# EAGLE library part ISP10 (library common)
PIN HEADER
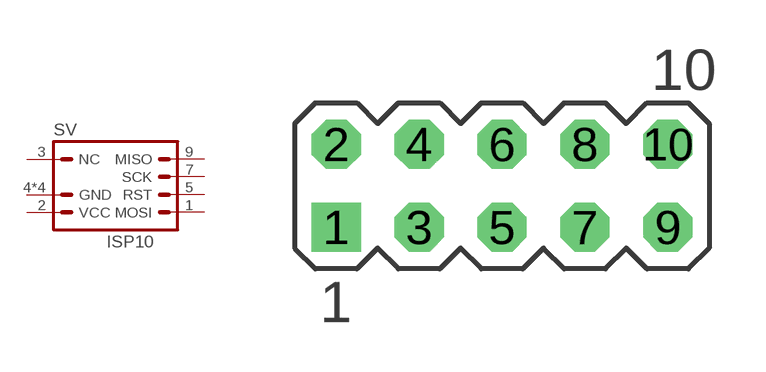
[diagram p10: symbol with the pads of MA05-2; footprint MA05-2]

Designator prefix SV

## ISP10-GND (OC_FARNELL: unknown; OC_NEWARK: unknown)  [MA05-2]
1  MOSI  pas
2  VCC  pas
3  NC  pas
4  GND  pas
5  RST  pas
6  GND  pas
7  SCK  pas
8  GND  pas
9  MISO  pas
10  GND  pas

## ISP10-NORS  [MA05-2]
1  MOSI  pas
2  VCC  pas
3  NC  pas
4  NC  pas
5  RST  pas
6  NC  pas
7  SCK  pas
8  GND  pas
9  MISO  pas
10  GND  pas

## Footprint MA05-2 (pad centres in mm)
PIN HEADER
drill 1 square: 1 -5.08,-1.27
drill 1 octagon: 2 -5.08,1.27; 3 -2.54,-1.27; 4 -2.54,1.27; 5 0,-1.27; 6 0,1.27; 7 2.54,-1.27; 8 2.54,1.27; 9 5.08,-1.27; 10 5.08,1.27